# Altium footprint library transistor-npn.PCBLIB: 49 footprints (part 2 of 4)
Each footprint in its own frame and in the unit in brackets; x right, y up, seen from the top. Pads: shape width x height; smd on the part's side, far side on the other; paste and mask are expansions set on the pad; w line width, h text height; cw(c..) or ccw(c..) is an arc to the next point about the centre after c.
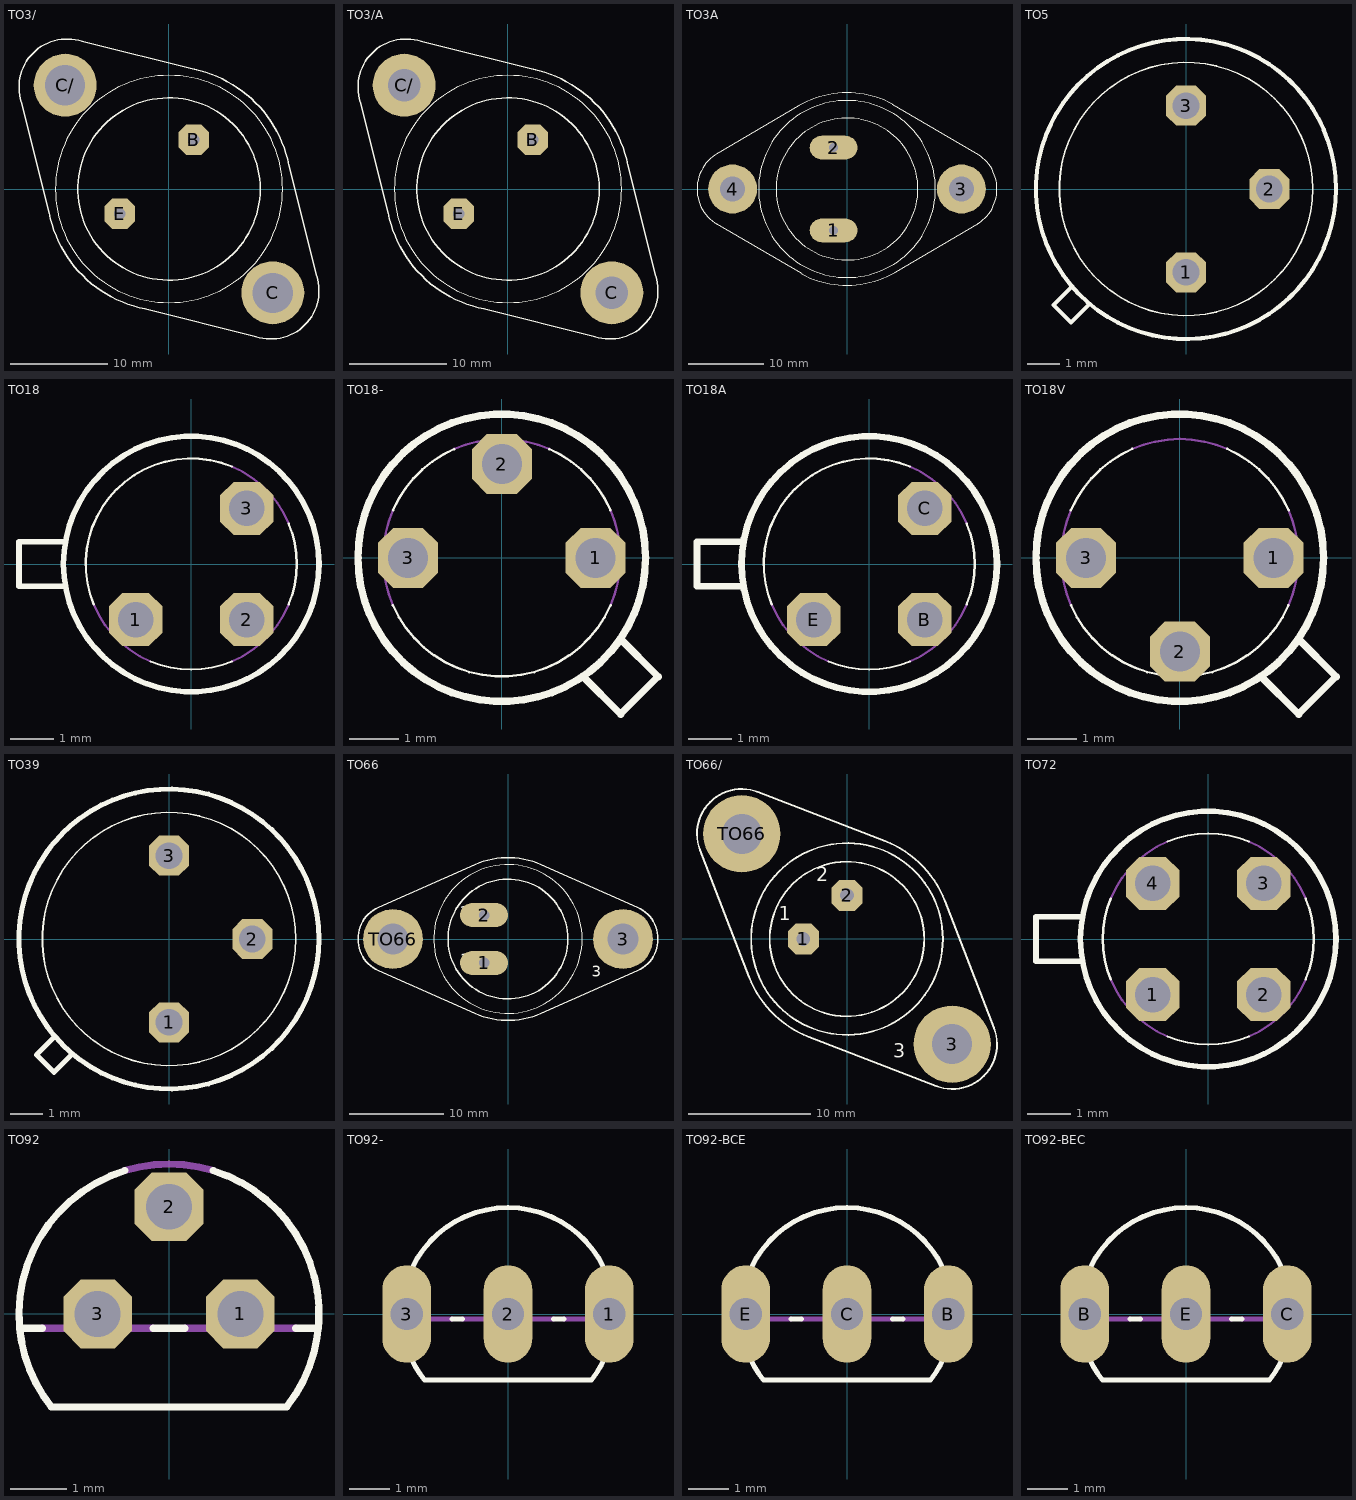
[diagram p1: the footprints below, top view; thin cyan lines are the x and y axes]

## TO3/ [mil]
pads (4):
  oct 124x124 hole 47: B(100,200) E(-200,-100)
  round 255 hole 162: C(420,-420) C/(-420,420)
Top Overlay:
  circle w6: c0,0 r369
  circle w2: c0,0 r460
  lines w6: -598,354 -485,-98 ; -597.47,351.27 cw(c-412,412) -550,550 cw(c-411.99,412) -350.88,597.36 ; -485.36,-97.07 ccw(c0,0) -350,-350 ccw(c0,0) -97.07,-485.36 ; -354,598 118,480 ; -98,-485 354,-598 ; 103.71,483.99 cw(c-0.01,0) 350,350 cw(c0,0) 485.36,97.07 ; 350.88,-597.34 ccw(c411.98,-412) 549.98,-549.98 ccw(c412,-411.99) 597.48,-351.27 ; 485,98 598,-354
Mechanical 16:
  circle w6: c420,-420 r85
  circle w6: c-420,420 r85
  text "E" at -300,-50 h77.5
  text "B" at 0,225 h77.5
  text "C" at 250,-450 h77.5

## TO3/A [mil]
pads (4):
  oct 124x124 hole 47: B(100,200) E(-200,-100)
  round 255 hole 130: C(420,-420) C/(-420,420)
Top Overlay:
  circle w6: c0,0 r369
  circle w2: c0,0 r460
  lines w6: -598,354 -485,-98 ; -597.47,351.27 cw(c-412,412) -550,550 cw(c-411.99,412) -350.88,597.36 ; -485.36,-97.07 ccw(c0,0) -350,-350 ccw(c0,0) -97.07,-485.36 ; -354,598 118,480 ; -98,-485 354,-598 ; 103.71,483.99 cw(c-0.01,0) 350,350 cw(c0,0) 485.36,97.07 ; 350.88,-597.34 ccw(c411.98,-412) 549.98,-549.98 ccw(c412,-411.99) 597.48,-351.27 ; 485,98 598,-354
Mechanical 16:
  circle w6: c420,-420 r85
  circle w6: c-420,420 r85
  text "E" at -300,-50 h77.5
  text "B" at 0,225 h77.5
  text "C" at 250,-450 h77.5

## TO3A [mil]
pads (4):
  oval 248x124 hole 47: 1(-70,-215) 2(-70,215)
  round 255 hole 130: 3(595,0) 4(-595,0)
Top Overlay:
  circle w5: c0,0 r369
  circle w2: c0,0 r460
  lines w5: -680,180 -250,433 ; -679,-181 -234,-442 ; -675.41,-183.35 cw(c-567,0) -780,0 cw(c-567,0) -672.94,184.78 ; -250.86,432.52 cw(c-0.01,0) 0,500 cw(c0.01,-0.01) 235.3,441.18 ; -235.3,-441.18 ccw(c-0.01,0.01) 0,-500 ccw(c0.01,0) 250.86,-432.52 ; 235,441 684,178 ; 251,-433 684,-178 ; 682.54,-178.94 ccw(c567,0) 780,0 ccw(c567,0) 682.54,178.94
Mechanical 16:
  circle w5: c595,0 r85
  circle w5: c-595,0 r85
  text "3" at 600,-195 h77.5
  text "2" at -150,180 h77.5
  text "1" at -150,-245 h77.5
  text "4" at -550,-195 h77.5

## TO5 [mil]
pads (3):
  oct 48x48 hole 32: 1(0,-100) 2(100,0) 3(0,100)
Top Overlay:
  circle w5: c0,0 r180
  circle w2: c0,0 r152
  lines w5: -138,-118 -159,-139 -138,-160 -117,-139

## TO18 [mil]
pads (3):
  oct 48x48 hole 32: 1(-50,-50) 2(50,-50) 3(50,50)
Top Overlay:
  circle w5: c0,0 r115
  lines w2: -87.68,-36.57 cw(c0,0) 36.57,87.68 ; -36.57,-87.68 ccw(c0,0) 36.57,-87.68 ; 87.68,-36.57 ccw(c0,0) 87.68,36.57
  lines w5: -113.25,-20 -155,-20 -155,20 -113.25,20
Mechanical 16:
  lines w2: -87.68,-36.57 ccw(c0,0) -36.57,-87.68 ; 36.57,-87.68 ccw(c0,0) 87.68,-36.57 ; 36.57,87.68 cw(c0,0) 87.68,36.57
  text "1" at -75,-50 h77.5
  text "2" at 25,-50 h77.5
  text "3" at 0,25 h77.5

## TO18- [mil]
pads (3):
  oct 48x48 hole 32: 1(75,0) 2(0,75) 3(-75,0)
Top Overlay:
  circle w6: c0,0 r115
  lines w2: -87,-38.16 ccw(c0,0) 87,-38.16 ; -87,38.16 cw(c0,0) -38.16,87 ; 38.16,87 cw(c0,0) 87,38.16
  lines w6: 64.92,-94.92 95,-125 125,-95 94.92,-64.92
Mechanical 16:
  lines w2: -87,-38.16 cw(c0.01,0) -87,38.16 ; -38.16,87 cw(c0,-0.01) 38.16,87 ; 87,-38.16 ccw(c-0.01,0) 87,38.16
  text "1" at 40,-45 h77.5
  text "2" at -20,25 h77.5
  text "3" at -75,-50 h77.5

## TO18A [mil]
pads (3):
  oct 48x48 hole 32: B(50,-50) C(50,50) E(-50,-50)
Top Overlay:
  circle w6: c0,0 r115
  lines w2: -87.68,-36.57 cw(c0,0) 36.57,87.68 ; -36.57,-87.68 ccw(c0,0) 36.57,-87.68 ; 87.68,-36.57 ccw(c0,0) 87.68,36.57
  lines w6: -113.27,-20 -155,-20 -155,20 -113.27,20
Mechanical 16:
  lines w2: -87.68,-36.57 ccw(c0,0) -36.57,-87.68 ; 36.57,-87.68 ccw(c0,0) 87.68,-36.57 ; 36.57,87.68 cw(c0,0) 87.68,36.57

## TO18V [mil]
pads (3):
  oct 48x48 hole 32: 1(75,0) 2(0,-75) 3(-75,0)
Top Overlay:
  circle w6: c0,0 r115
  lines w2: -87,-38.16 ccw(c0,0) 87,-38.16 ; -87,38.16 cw(c0,0) -38.16,87 ; 38.16,87 cw(c0,0) 87,38.16
  lines w6: 64.92,-94.92 95,-125 125,-95 94.92,-64.92
Mechanical 16:
  lines w2: -87,-38.16 cw(c0,0) -87,38.16 ; -38.16,87 cw(c0,0) 38.16,87 ; 87,-38.16 ccw(c0,0) 87,38.16
  text "1" at 40,30 h77.5
  text "2" at -20,-50 h77.5
  text "3" at -75,25 h77.5

## TO39 [mil]
pads (3):
  oct 48x48 hole 32: 1(0,-100) 2(100,0) 3(0,100)
Top Overlay:
  circle w6: c0,0 r180
  circle w2: c0,0 r152
  lines w6: -138,-118 -159,-139 -138,-160 -117,-139

## TO66 [mil]
pads (4):
  oval 200x100 hole 44: 1(-100,-100) 2(-100,100)
  round 250 hole 130: 3(480,0) TO66(-480,0)
Top Overlay:
  circle w2: c0,0 r310
  circle w6: c0,0 r250
  lines w6: -539.8,-132.56 cw(c-481.02,-0.01) -539.8,132.54 -137.83,310.83 cw(c0.01,0.03) 137.84,310.83 539.8,132.56 cw(c481.02,-0.01) 539.8,-132.56 137.83,-310.83 cw(c0.01,-0.03) -137.83,-310.83 -539.8,-132.56
  text "3" at 350,-175 h77.5
  text "2" at -200,75 h77.5
  text "1" at -200,-125 h77.5
Mechanical 16:
  circle w6: c-480,0 r75
  circle w6: c480,0 r75

## TO66/ [mil]
pads (4):
  oct 100x100 hole 44: 1(-141,0) 2(0,141)
  round 250 hole 130: 3(340,-340) TO66(-340,340)
Top Overlay:
  circle w6: c0,0 r310
  circle w6: c0,0 r250
  lines w6: -287.98,475.41 ccw(c-340.14,340.11) -475.43,287.95 -317.24,-122.32 ccw(c-0.01,-0.02) -122.31,-317.25 287.95,-475.43 ccw(c340.11,-340.14) 475.41,-287.98 ; -287.95,475.43 122.32,317.24 cw(c0.02,0) 317.26,122.31 475.43,-287.95
  text "1" at -220,45 h77.5
  text "2" at -100,170 h77.5
  text "3" at 150,-400 h77.5
Mechanical 16:
  circle w6: c-339.41,339.41 r75
  circle w6: c339.41,-339.41 r75

## TO72 [mil]
pads (4):
  oct 48x48 hole 32: 1(-50,-50) 2(50,-50) 3(50,50) 4(-50,50)
Top Overlay:
  circle w5: c0,0 r115
  lines w2: -87.68,-36.57 cw(c0,0) -87.68,36.57 ; -36.57,-87.68 ccw(c0,0) 36.57,-87.68 ; -36.57,87.68 cw(c0,0) 36.57,87.68 ; 87.68,-36.57 ccw(c0,0) 87.68,36.57
  lines w5: -114,-20 -155,-20 -155,20 -114,20
Mechanical 16:
  lines w2: -87.68,-36.57 ccw(c0,0) -36.57,-87.68 ; -87.68,36.57 cw(c0,0) -36.57,87.68 ; 36.57,-87.68 ccw(c0,0) 87.68,-36.57 ; 36.57,87.68 cw(c0,0) 87.68,36.57
  text "1" at -65,-65 h77.5
  text "2" at 20,-65 h77.5
  text "3" at 20,15 h77.5
  text "4" at -65,15 h77.5

## TO92 [mil]
pads (3):
  oct 48x48 hole 32: 1(50,0) 2(0,75) 3(-50,0)
Top Overlay:
  lines w5: -88.73,-10 -104.52,-10 ; -30.96,100.33 ccw(c0,0) -104.52,-10 ; -11.27,-10 11.27,-10 ; 30.96,100.33 cw(c0,0) 82.46,-65 -82.46,-65 cw(c0,0) -104.52,-10 ; 88.73,-10 104.52,-10
Mechanical 16:
  lines w5: -88.73,-10 -11.27,-10 ; -30.96,100.33 cw(c0,-0.02) 30.96,100.33 ; 11.27,-10 88.73,-10
  text "2" at -25,25 h77.5
  text "3" at -85,0 h77.5
  text "1" at 45,0 h77.5

## TO92- [mil]
pads (3):
  oval 48x96 hole 32: 1(100,0) 2(0,0) 3(-100,0)
Top Overlay:
  lines w5: -95,-44.72 ccw(c0,0.01) -82.46,-65 82.46,-65 ccw(c-0.01,0) 95.44,-43.77 ; -95,44.72 cw(c0,0) 95,44.72 ; -55.28,-5 -44.72,-5 ; 44.72,-5 55.28,-5
Mechanical 16:
  lines w5: -95,-44.72 cw(c0,0) -104.88,-5 ; -95,44.72 ccw(c0,0) -104.88,-5 ; -55.28,-5 -104.88,-5 ; -44.72,-5 44.72,-5 ; 55.28,-5 104.88,-5 ; 95,-44.72 ccw(c0,0) 104.88,-5 ; 95,44.72 cw(c0,0) 104.88,-5

## TO92-BCE [mil]
pads (3):
  oval 48x96 hole 32: B(100,0) C(0,0) E(-100,0)
Top Overlay:
  lines w5: -95.02,-44.72 ccw(c-0.02,0.01) -82.48,-65 82.48,-65 ccw(c0.01,0) 95.46,-43.77 ; -95,44.72 cw(c0,0) 95,44.72 ; -55.28,-5 -44.72,-5 ; 44.72,-5 55.28,-5
Mechanical 16:
  lines w5: -95,-44.72 cw(c0,0) -104.88,-5 ; -95,44.72 ccw(c0,0) -104.88,-5 ; -55.28,-5 -104.88,-5 ; -44.72,-5 44.72,-5 ; 55.28,-5 104.88,-5 ; 95,-44.72 ccw(c0,0) 104.88,-5 ; 95,44.72 cw(c0,0) 104.88,-5

## TO92-BEC [mil]
pads (3):
  oval 48x96 hole 32: B(-100,0) C(100,0) E(0,0)
Top Overlay:
  lines w5: -95.02,-44.72 ccw(c-0.02,0.01) -82.48,-65 82.48,-65 ccw(c0.01,0) 95.46,-43.77 ; -95,44.72 cw(c0,0) 95,44.72 ; -55.28,-5 -44.72,-5 ; 44.72,-5 55.28,-5
Mechanical 16:
  lines w5: -95,-44.72 cw(c0,0) -104.88,-5 ; -95,44.72 ccw(c0,0) -104.88,-5 ; -55.28,-5 -104.88,-5 ; -44.72,-5 44.72,-5 ; 55.28,-5 104.88,-5 ; 95,-44.72 ccw(c0,0) 104.88,-5 ; 95,44.72 cw(c0,0) 104.88,-5